# Altium schematic symbol library ultra sonic.SchLib: 1 symbol
Pins are listed as number, name and electrical type; pins without a type are passive.

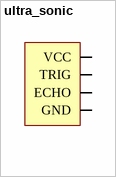
[diagram p0: symbol ultra_sonic]

## ultra_sonic
designator S?
footprint DIP8
pins: 1 GND, 2 ECHO, 3 TRIG, 4 VCC